# Altium footprint library 2.54_Connector_x3_male.PcbLib: 1 footprints
Each footprint in its own frame and in the unit in brackets; x right, y up, seen from the top. Pads: shape width x height; smd on the part's side, far side on the other; paste and mask are expansions set on the pad; w line width, h text height; cw(c..) or ccw(c..) is an arc to the next point about the centre after c.
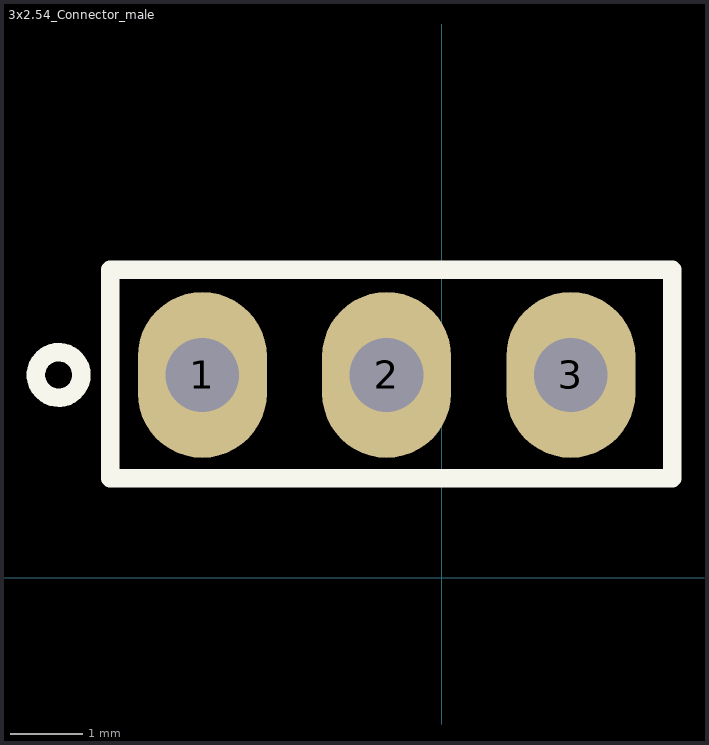
[diagram p0: the footprint, top view; thin cyan lines are the x and y axes]

## 3x2.54_Connector_male [mil]
pads (3):
  oval 70x90 hole 40: 1(-130,110) 2(-30,110) 3(70,110)
Top Overlay:
  circle w10: c-208,110 r12.37
  lines w10: -180,54 125,54 125,167 -180,167 -180,54
Bottom Overlay:
  lines w10: -180,54 125,54 125,167 -180,167 -180,54
3D body "PIN x3 male.STEP": height 331.06, standoff -90.2, extent -178.43,65.71 120,154.29